# Altium schematic symbol library DRV8833.SchLib: 2 symbols
Pins are listed as number, name and electrical type; pins without a type are passive.

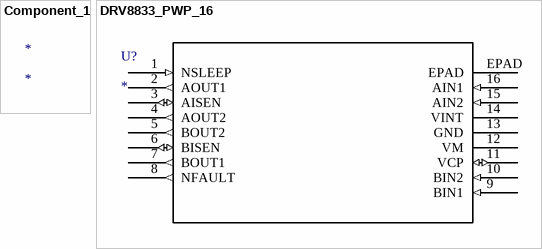
[diagram p0: symbols Component_1 to DRV8833_PWP_16]

## Component_1
designator *

## DRV8833_PWP_16
designator U?
Imported; Manufacturer: Texas Instruments; GENERIC_PART_NUMBER: DRV8833; Manufacturer_Part_Number: drv8833_pwp_16; INDUSTRY_STD_PKG_TYPE: HTSSOP; FAMILY_NAME: BRUSHED DC DRIVER; PIN_COUNT: 16; PACKAGE_DESIGNATOR: PWP; Datasheet URL: http://www.ti.com/lit/gpn/DRV8833; Vendor: Texas Instruments; RefDes: RefDes; Type: DEV; Value: Value
footprint PWP16_2P31X2P46
pins: 1 NSLEEP (in), 2 AOUT1 (out), 3 AISEN (io), 4 AOUT2 (out), 5 BOUT2 (out), 6 BISEN (io), 7 BOUT1 (out), 8 NFAULT (out), 9 BIN1 (in), 10 BIN2 (in), 11 VCP (io), 12 VM (power), 13 GND (power), 14 VINT (power), 15 AIN2 (in), 16 AIN1 (in), EPAD